# EAGLE library part FDMA1032 (library OverVoltage)
20V Complementary MOSFET
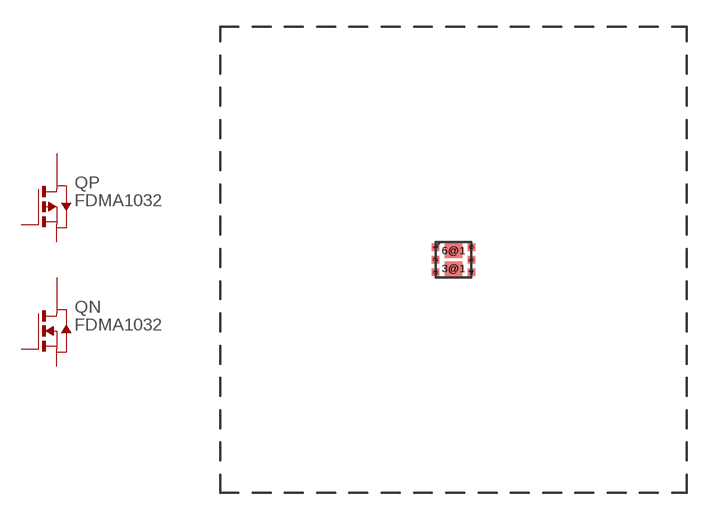
[diagram p1: symbol with the pads of MLP06; footprint MLP06]

Designator prefix Q; gates N=N_MOSFET2D P=P_MOSFET2D

## FDMA1032  [MLP06]
1  N:S  pas
2  N:G  pas
3  P:D1  pas
3@1  P:D  pas
4  P:S  pas
5  P:G  pas
6  N:D  pas
6@1  N:D1  pas

## Footprint MLP06 (pad centres in mm)
MO-229 with non-JEDEC Dual DAP
smd 0.42 x 0.42: 1 -1,0.7; 2 -1,0; 3 -1,-0.7; 4 1,-0.7; 5 1,0; 6 1,0.7
smd 1 x 0.8: 3@1 0,-0.5; 6@1 0,0.5